# EAGLE library part SI5351A (library _RoweTel)
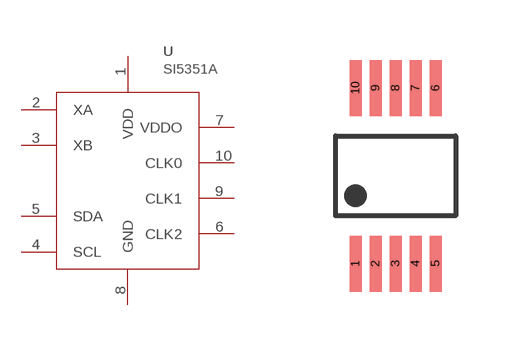
[diagram p81: symbol with the pads of MSOP10; footprint MSOP10]

Designator prefix U

## SI5351A  [MSOP10]
1  VDD  pwr
2  XA
3  XB
4  SCL
5  SDA
6  CLK2  out
7  VDDO  pwr
8  GND  pwr
9  CLK1  out
10  CLK0  out

## Footprint MSOP10 (pad centres in mm)
smd 0.3 x 1.4: 1 -1,-2.2; 2 -0.5,-2.2; 3 0,-2.2; 4 0.5,-2.2; 5 1,-2.2; 6 1,2.2; 7 0.5,2.2; 8 0,2.2; 9 -0.5,2.2; 10 -1,2.2